# EAGLE library part FLYBACK (library Heep)
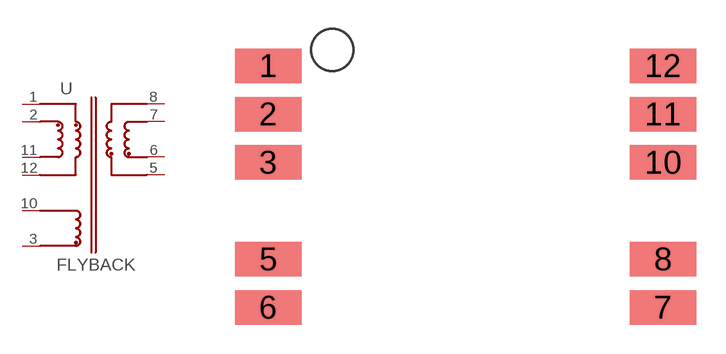
[diagram p3: symbol with the pads of 10P_GULLWING; footprint 10P_GULLWING]

Designator prefix -

## FLYBACK  [10P_GULLWING]
1  1  pas
2  2  pas
3  3  pas
5  5  pas
6  6  pas
7  7  pas
8  8  pas
10  10  pas
11  11  pas
12  12  pas

## Footprint 10P_GULLWING (pad centres in mm)
smd 3.429 x 1.778: 1 0,2.489; 2 0,0; 3 0,-2.489; 5 0,-7.468; 6 0,-9.957; 7 20.32,-9.957; 8 20.32,-7.468; 10 20.32,-2.489; 11 20.32,0; 12 20.32,2.489